# Altium schematic symbol library 464HardwareProject.SchLib: 7 symbols
Pins are listed as number, name and electrical type; pins without a type are passive.

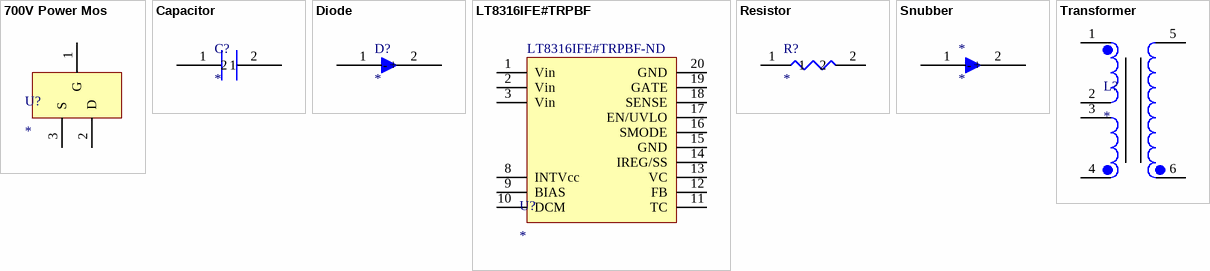
[diagram p0: symbols 700V Power Mos to Transformer]

## 700V Power Mos
designator U?
footprint 700V mos
pins: 1 G, 2 D, 3 S

## Capacitor
designator C?
footprint C6 C0402 1uF
footprint C1 C0402 47pF
footprint C3 C0402 47pF 100V
footprint C4 C0402 4.7uF 16V
footprint C5 C0402 4.7uF 16V
footprint C2 Output Cap 330uF 16V 13mohm
pins: 1, 2

## Diode
designator D?
footprint D1 40A 860 mv TO220-2
footprint D2 1A 470mV SOD323-2
footprint D3 5A 1.15V DO-214AB
pins: 1 +, 2 -

## LT8316IFE#TRPBF
designator U?  Supplier Part Number 1: LT8316IFE#TRPBF-ND
DC/DC Cntrlr Single-OUT 142kHz Automotive 16-Pin TSSOP EP T/R; Manufacturer: Analog Devices; Manufacturer Part Number: LT8316IFE#TRPBF; Supplier 1: Digi-Key; Pricing 1: 2500=3,34500 (USD)
footprint LT8316
pins: 1 Vin, 2 Vin, 3 Vin, 8 INTVcc, 9 BIAS, 10 DCM, 11 TC, 12 FB, 13 VC, 14 IREG/SS, 15 GND, 16 SMODE, 17 EN/UVLO, 18 SENSE, 19 GATE, 20 GND

## Resistor
designator R?
footprint R9 R0402 20K
footprint R8 R0402 10K
footprint R7 R0402 4.99K
footprint R6 R0402 44.2K 0.25W
footprint R5 R0402 121K
footprint R3 R0805 10K 1W wide-chip (Chip Resistor, 2-Leads, Body 1,25x2,00mm, IPC Medium Density)
footprint R2 R0402 56.2K
footprint R1 R0402 1.5M 0.2W
footprint R4 R0603 32mohm sense
footprint R10 R0402 10mohm gate
footprint R11 R3540 10K 4W snubber
pins: 1, 2

## Snubber
designator *
pins: 1 +, 2 -

## Transformer
designator L?
footprint Transformer
pins: 1 L1 +, 2 L1 -, 3 L3+, 4 L3-, 5 L2+, 6 L2-